# Altium footprint library SMD Антенны.PcbLib: 1 footprints
Each footprint in its own frame and in the unit in brackets; x right, y up, seen from the top. Pads: shape width x height; smd on the part's side, far side on the other; paste and mask are expansions set on the pad; w line width, h text height; cw(c..) or ccw(c..) is an arc to the next point about the centre after c.
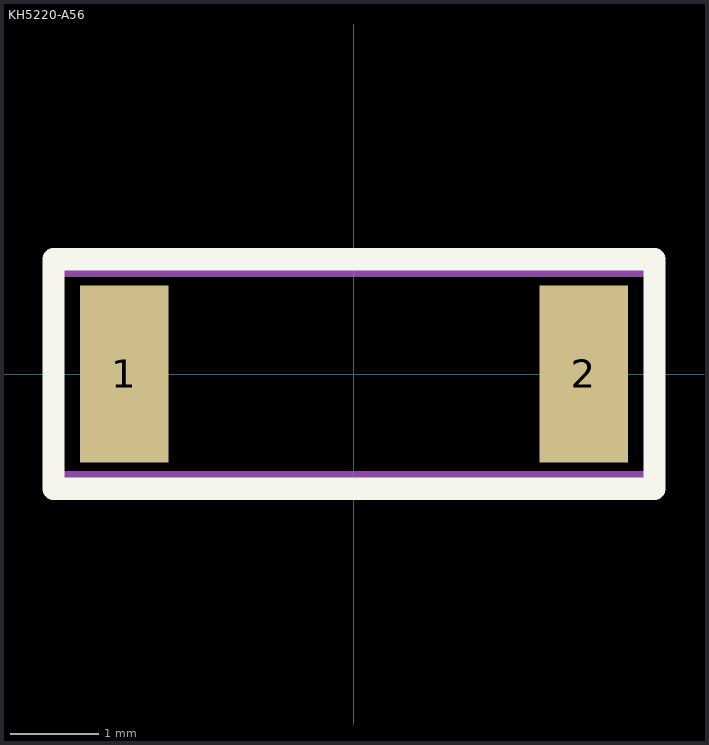
[diagram p0: the footprint, top view; thin cyan lines are the x and y axes]

## KH5220-A56 [mm]
pads (2):
  rect 1x2 smd: 1(-2.6,0) 2(2.6,0)
Top Overlay:
  lines w0.254: -3.4,-1.3 -3.4,1.3 3.4,1.3 3.4,-1.3 -3.4,-1.3
ASSEMBLY_TOP:
  lines w0.2: -3.4,-1.2 3.4,-1.2 3.4,1.2 -3.4,1.2 -3.4,-1.2
  text ".Designator" at -0.9,-0.2 h1.52
3D body "KH5220-A56.STEP": height 0.61, standoff 0, extent -2.6,-1 2.6,1